# Altium schematic symbol library AOS DPAK PMOS.SchLib: 1 symbol
Pins are listed as number, name and electrical type; pins without a type are passive.

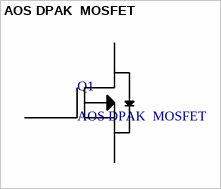
[diagram p0: symbol AOS DPAK  MOSFET]

## AOS DPAK  MOSFET
designator Q1
pins: 1 G, 3 S, 4 D